# Altium schematic symbol library RLC.SchLib: 5 symbols
Pins are listed as number, name and electrical type; pins without a type are passive.

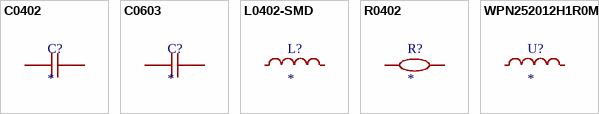
[diagram p0: symbols C0402 to WPN252012H1R0MT]

## C0402
designator C?
footprint C0402
pins: 1, 2

## C0603
designator C?
footprint C0603
pins: 1, 2

## L0402-SMD
designator L?
footprint L0402-SMD
pins: 1, 2

## R0402
designator R?
footprint R0402
pins: 1, 2

## WPN252012H1R0MT
designator U?
1uH
footprint IND-SMD_L2.5-W2.0_WPN252012H
pins: 1, 2